# Altium footprint library 56SD36-01-1-AJN-RotPot.PcbLib: 1 footprints
Each footprint in its own frame and in the unit in brackets; x right, y up, seen from the top. Pads: shape width x height; smd on the part's side, far side on the other; paste and mask are expansions set on the pad; w line width, h text height; cw(c..) or ccw(c..) is an arc to the next point about the centre after c.
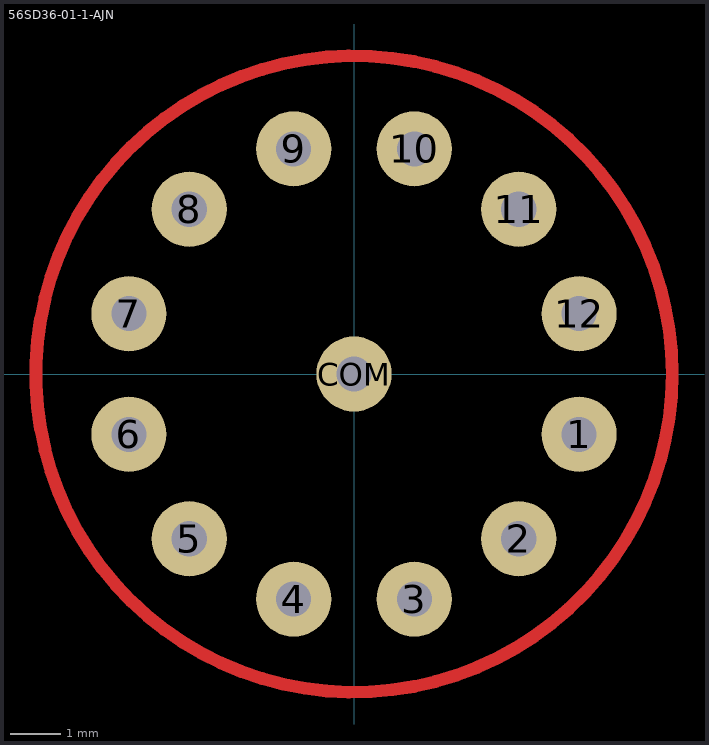
[diagram p0: the footprint, top view; thin cyan lines are the x and y axes]

## 56SD36-01-1-AJN [mm] "56SD36-01-1-AJN, Rotary Switch, Rotary Pot"
height 25.46
pads (13):
  round 1.5 hole 0.7: 1(4.492,-1.204) 2(3.288,-3.288) 3(1.204,-4.492) 4(-1.204,-4.492) 5(-3.288,-3.288) 6(-4.492,-1.204) 7(-4.492,1.204) 8(-3.288,3.288) 9(-1.204,4.492) 10(1.204,4.492) 11(3.288,3.288) 12(4.492,1.204) COM(0,0)
Top Layer:
  circle w0.254: c0,0 r6.35